# EAGLE library part LTC2051CS8 (library Soldering)
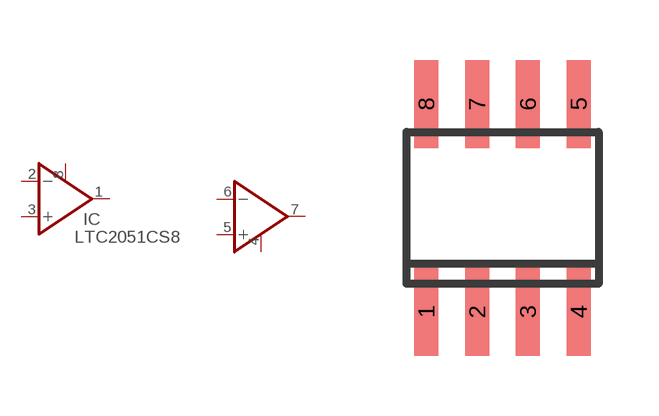
[diagram p2: symbol with the pads of SOIC8; footprint SOIC8]

Designator prefix IC

## LTC2051CS8  [SOIC8]
1  1OUT  out
2  1-IN  in
3  1+IN  in
4  P$2  pas
5  2+IN  in
6  2-IN  in
7  2OUT  out
8  P$1  pas

## Footprint SOIC8 (pad centres in mm)
Small Outline IC
smd 0.6 x 2.2: 1 -1.905,-2.6; 2 -0.635,-2.6; 3 0.635,-2.6; 4 1.905,-2.6; 5 1.905,2.6; 6 0.635,2.6; 7 -0.635,2.6; 8 -1.905,2.6